# EAGLE library part TCAN1042 (library TCAN1042)
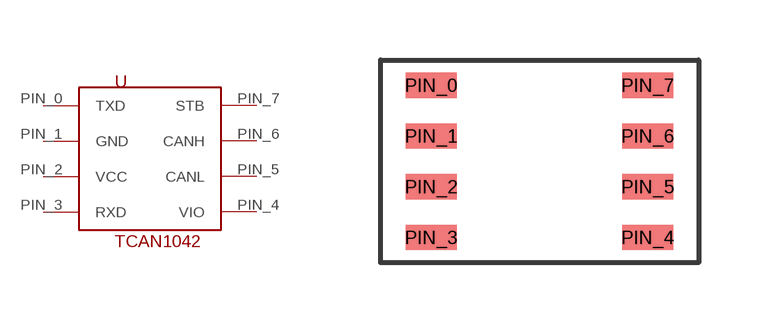
[diagram p0: symbol with the pads of TCAN1042; footprint TCAN1042]

Designator prefix -

## TCAN1042  [TCAN1042]
PIN_0  TXD
PIN_1  GND
PIN_2  VCC
PIN_3  RXD
PIN_4  VIO
PIN_5  CANL
PIN_6  CANH
PIN_7  STB

## Footprint TCAN1042 (pad centres in mm)
smd 1.27 x 0.635: PIN_0 6.35,2.54; PIN_1 6.35,1.27; PIN_2 6.35,0; PIN_3 6.35,-1.27; PIN_4 11.76,-1.27; PIN_5 11.76,0; PIN_6 11.76,1.27; PIN_7 11.76,2.54